# Altium schematic symbol library YL9.SchLib: 1 symbol
Pins are listed as number, name and electrical type; pins without a type are passive.

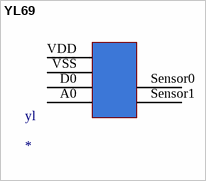
[diagram p0: symbol YL69]

## YL69
designator yl
pins: A0, D0, Sensor0, Sensor1, VDD, VSS